# Altium footprint library BM12B-GHS-TBT(LF)(SN)(N).PcbLib: 1 footprints
Each footprint in its own frame and in the unit in brackets; x right, y up, seen from the top. Pads: shape width x height; smd on the part's side, far side on the other; paste and mask are expansions set on the pad; w line width, h text height; cw(c..) or ccw(c..) is an arc to the next point about the centre after c.
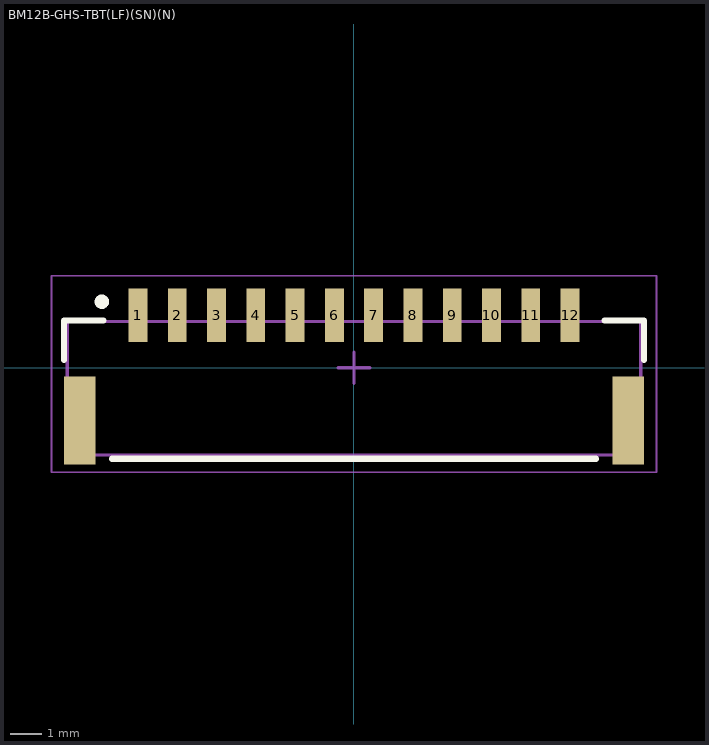
[diagram p0: the footprint, top view; thin cyan lines are the x and y axes]

## BM12B-GHS-TBT(LF)(SN)(N) [mm]
pads (14):
  rect 0.6x1.7 smd: 1(-6.875,1.675) 2(-5.625,1.675) 3(-4.375,1.675) 4(-3.125,1.675) 5(-1.875,1.675) 6(-0.625,1.675) 7(0.625,1.675) 8(1.875,1.675) 9(3.125,1.675) 10(4.375,1.675) 11(5.625,1.675) 12(6.875,1.675)
  rect 1x2.8 smd: ""(-8.725,-1.675) ""(8.725,-1.675)
Top Overlay:
  circle w0.254: c-8.025,2.1 r0.1
  lines w0.2: -9.225,0.25 -9.225,1.5 -7.975,1.5 ; -7.7,-2.9 7.7,-2.9 ; 7.975,1.5 9.225,1.5 9.225,0.25
Mechanical 1:
  lines w0.1: -9.125,-2.775 -9.125,1.475 9.125,1.475 9.125,-2.775 -9.125,-2.775
  text ".Designator" at -3.374,-1.308 h0.65
Mechanical 2:
  lines w0.05: -9.625,-3.325 -9.625,2.925 9.625,2.925 9.625,-3.325 -9.625,-3.325
  lines w0.1: -0.5,0 0.5,0 ; 0,-0.5 0,0.5
3D body "BM12B-GHS-TBT.STEP": height 4.18, standoff -0.03, extent -9.125,-2.775 9.125,2.175